# Altium schematic symbol library IC_78L05.SchLib: 1 symbol
Pins are listed as number, name and electrical type; pins without a type are passive.

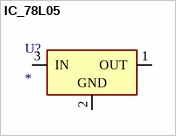
[diagram p0: symbol IC_78L05]

## IC_78L05
designator U?
pins: 1 OUT (power), 2 GND (power), 3 IN (power)